# Altium footprint library PEI_PCB_1.1.PcbLib: 310 footprints (part 12 of 20)
Each footprint in its own frame and in the unit in brackets; x right, y up, seen from the top. Pads: shape width x height; smd on the part's side, far side on the other; paste and mask are expansions set on the pad; w line width, h text height; cw(c..) or ccw(c..) is an arc to the next point about the centre after c.
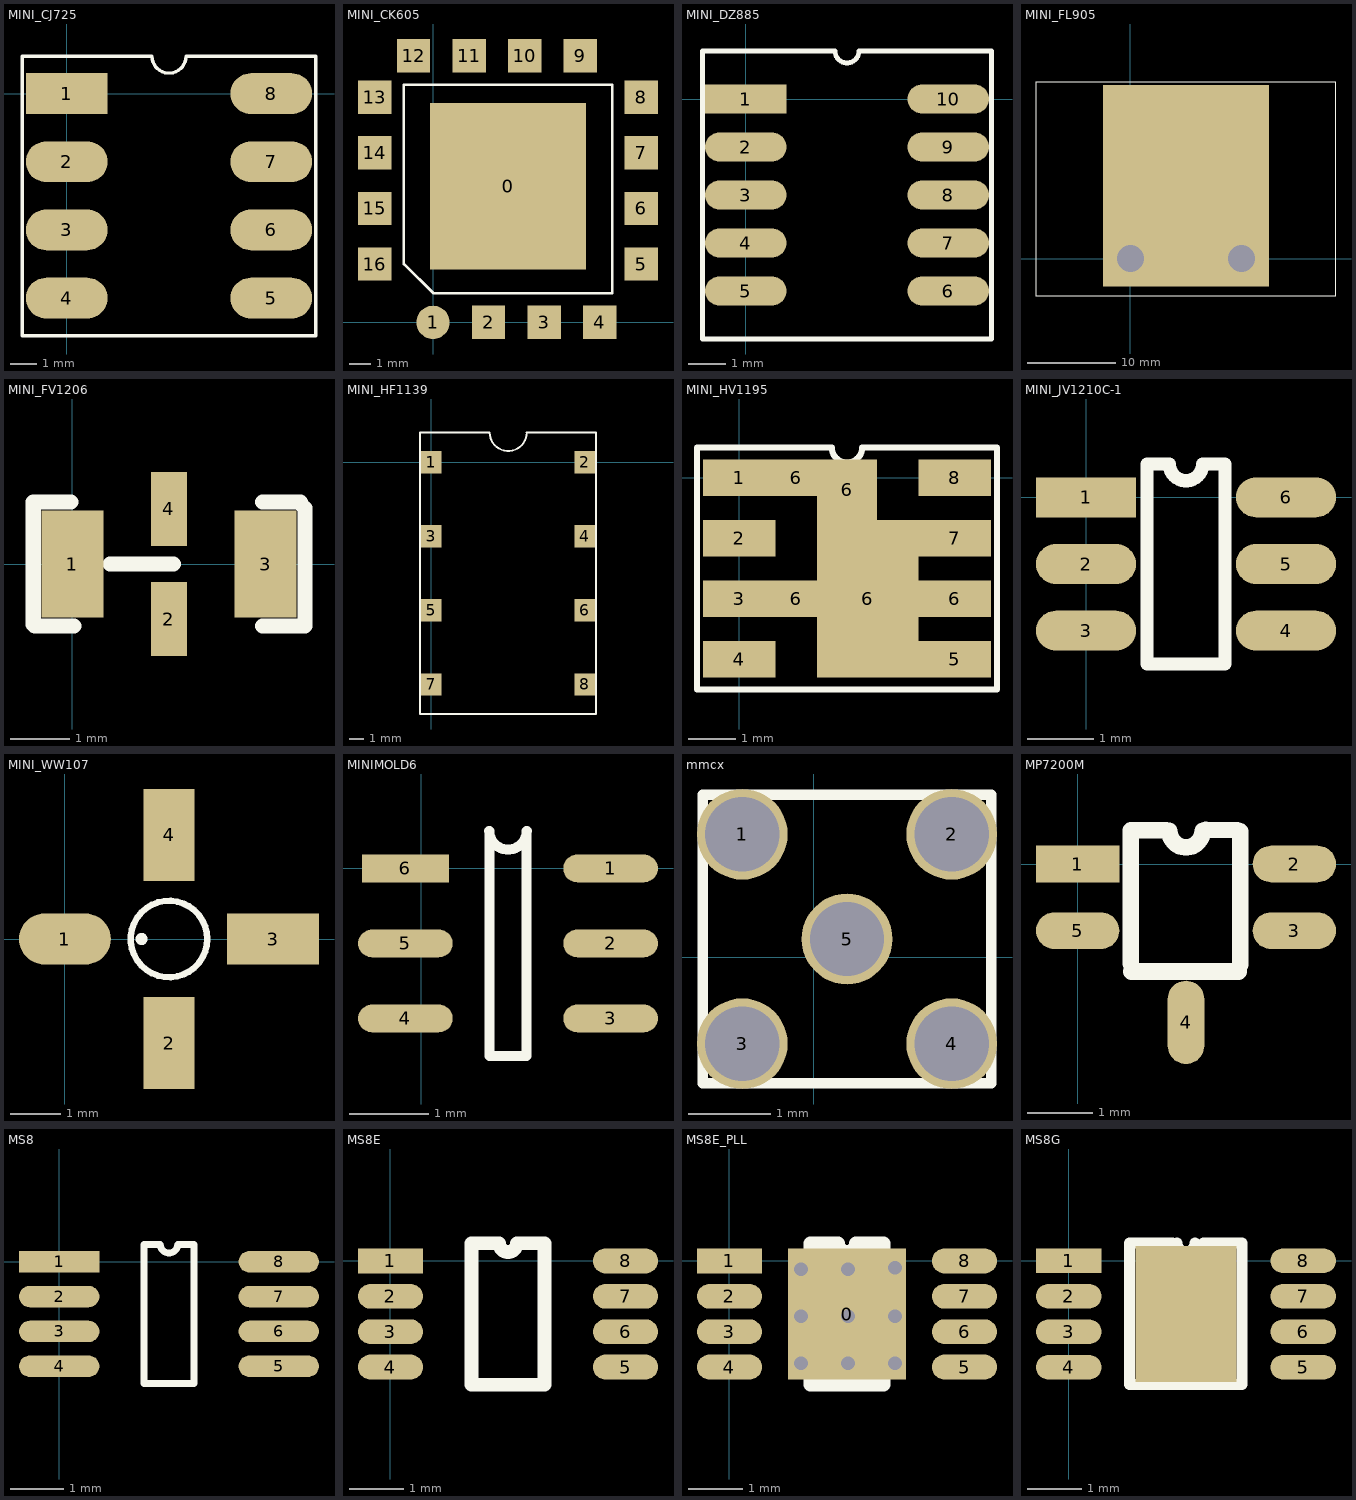
[diagram p11: the footprints below, top view; thin cyan lines are the x and y axes]

## MINI_CJ725 [mil]
pads (8):
  rect 120x60 smd: 1(0,0)
  oval 120x60 smd: 2(0,-100) 3(0,-200) 4(0,-300) 5(300,-300) 6(300,-200) 7(300,-100) 8(300,0)
TopOverlay:
  lines w5: -65,-355 -65,55 125,55 ccw(c150,55) 175,55 365,55 365,-355 -65,-355

## MINI_CK605 [mil]
pads (17):
  rect 280x300 smd: 0(135,245)
  round 60 smd: 1(0,0)
  rect 60x60 smd: 2(100,0) 3(200,0) 4(300,0) 5(375,105) 6(375,205) 7(375,305) 8(375,405) 9(265,480) 10(165,480) 11(65,480) 12(-35,480) 13(-105,405) 14(-105,305) 15(-105,205) 16(-105,105)
TopOverlay:
  lines w5: -52.5,105 -52.5,427.5 322.5,427.5 322.5,52.5 0.5,52.5 -52.5,105

## MINI_DZ885 [mil]
pads (10):
  rect 85x30 smd: 1(0,0)
  oval 85x30 smd: 2(0,-50) 3(0,-100) 4(0,-150) 5(0,-200) 6(211,-200) 7(211,-150) 8(211,-100) 9(211,-50) 10(211,0)
TopOverlay:
  lines w5: -45,-250 -45,50 93,50 ccw(c105.5,50) 118,50 256,50 256,-250 -45,-250

## MINI_FL905 [mil]
pads (1):
  rect 740x900 smd: ""(248,326)
via 0,0 diameter 140 hole 120
via 496,0 diameter 140 hole 120
TopOverlay:
  lines w5: -422,-169 -422,790 918,790 918,-163 ; -422,-166 918,-166

## MINI_FV1206 [mm]
pads (4):
  rect 1.04x1.8 smd: 1(0,0) 3(3.25,0)
  rect 0.61x1.245 smd: 2(1.625,-0.928) 4(1.625,0.928)
TopOverlay:
  lines w0.254: -0.025,1.041 -0.66,1.041 -0.66,-1.016 -0.635,-1.041 0.025,-1.041 ; 0.635,0 1.702,0 ; 3.2,-1.041 3.912,-1.041 3.912,0.94 3.835,1.016 ; 3.2,1.041 3.835,1.041

## MINI_HF1139 [mil]
pads (8):
  rect 55x60 smd: 1(0,0) 2(415,0) 3(0,-200) 4(415,-200) 5(0,-400) 6(415,-400) 7(0,-600) 8(415,-600)
TopOverlay:
  lines w5: 157.5,80 -30,80 -30,-680 445,-680 445,80 257.5,80 ; 158,80 ccw(c208,80) 258,80

## MINI_HV1195 [mil]
pads (12):
  rect 60x30 smd: 1(0,0) 2(0,-50) 3(0,-100) 4(0,-150) 5(178,-150) 6(178,-100) 7(178,-50) 8(178,0)
  rect 34x30 smd: 6(47,-100) 6(47,0)
  rect 50x50 smd: 6(89,-10)
  rect 84x130 smd: 6(106,-100)
TopOverlay:
  lines w5: -35,-175 213,-175 213,25 101.5,25 cw(c89,25) 76.5,25 -35,25 -35,-175

## MINI_JV1210C-1 [mm]
pads (6):
  rect 1.5x0.6 smd: 1(0,0)
  oval 1.5x0.6 smd: 2(0,-1) 3(0,-2) 4(3,-2) 5(3,-1) 6(3,0)
TopOverlay:
  lines w0.2: 2.05,0.5 1.75,0.5 cw(c1.5,0.5) 1.25,0.5 0.915,0.5 0.915,-2.5 2.085,-2.5 2.085,0.5

## MINI_WW107 [mil]
pads (4):
  oval 72x40 smd: 1(0,0)
  rect 40x72 smd: 2(81.5,-81.5) 4(81.5,81.5)
  rect 72x40 smd: 3(163,0)
TopOverlay:
  circle w5: c60,0 r2.24
  circle w5: c81.5,0 r30

## MINIMOLD6 [mm]
pads (6):
  oval 1.2x0.35 smd: 1(2.4,0) 2(2.4,-0.95) 3(2.4,-1.9) 4(-0.2,-1.9) 5(-0.2,-0.95)
  rect 1.1x0.35 smd: 6(-0.2,0)
TopOverlay:
  lines w0.127: 0.863,0.475 ccw(c1.1,0.475) 1.337,0.475 ; 0.865,0.475 0.865,-2.375 1.335,-2.375 1.335,0.475

## mmcx [mm]
pads (5):
  round 1.1 hole 0.9: 1(-0.864,1.494) 2(1.676,1.494) 3(-0.864,-1.046) 4(1.676,-1.046) 5(0.406,0.224)
TopOverlay:
  lines w0.127: -1.344,-1.527 2.156,-1.527 2.156,1.974 -1.344,1.974 -1.344,-1.527

## MP7200M [mil]
pads (5):
  rect 50x22 smd: 1(0,0)
  oval 50x22 smd: 2(130,0) 3(130,-40) 5(0,-40)
  oval 22x50 smd: 4(65,-95)
TopOverlay:
  lines w10: 31.8,-59.9 31.8,20.1 ; 32.2,-64.5 96.6,-64.5 ; 32.3,20.3 53,20.1 ; 55,20 ccw(c65,20) 75,20 ; 76.9,20.5 95.8,20.3 ; 97.5,-60.5 97.5,19.5

## MS8 [mm]
pads (8):
  rect 1.5x0.4 smd: 1(0,0)
  oval 1.5x0.4 smd: 2(0,-0.65) 3(0,-1.3) 4(0,-1.95) 5(4.1,-1.95) 6(4.1,-1.3) 7(4.1,-0.65) 8(4.1,0)
TopOverlay:
  lines w0.127: 1.585,-2.275 2.515,-2.275 2.515,0.325 2.212,0.325 cw(c2.05,0.325) 1.888,0.325 1.585,0.325 1.585,-2.275

## MS8E [mil]
pads (8):
  rect 47x18 smd: 1(0,0)
  oval 47x18 smd: 2(0,-25.6) 3(0,-51.2) 4(0,-76.8) 5(170,-76.8) 6(170,-51.2) 7(170,-25.6) 8(170,0)
TopOverlay:
  lines w10: 58.5,-89.6 58.5,12.8 78.6,12.8 ccw(c85,12.8) 91.4,12.8 111.5,12.8 111.5,-89.6 58.5,-89.6

## MS8E_PLL [mil]
pads (9):
  rect 85x95 smd: 0(85,-38.4)
  rect 47x18 smd: 1(0,0)
  oval 47x18 smd: 2(0,-25.6) 3(0,-51.2) 4(0,-76.8) 5(170,-76.8) 6(170,-51.2) 7(170,-25.6) 8(170,0)
via 51.8,-6 diameter 12 hole 10
via 85.8,-6 diameter 12 hole 10
via 51.8,-40 diameter 12 hole 10
via 85.8,-40 diameter 12 hole 10
via 51.8,-74 diameter 12 hole 10
via 85.8,-74 diameter 12 hole 10
via 119.8,-5 diameter 12 hole 10
via 119.8,-40 diameter 12 hole 10
via 119.8,-74 diameter 12 hole 10
TopOverlay:
  lines w10: 58.5,-89.6 58.5,12.8 78.6,12.8 ccw(c85,12.8) 91.4,12.8 111.5,12.8 111.5,-89.6 58.5,-89.6

## MS8G [mm]
pads (9):
  rect 1.2x0.45 smd: 1(0,0)
  oval 1.2x0.45 smd: 2(0,-0.65) 3(0,-1.3) 4(0,-1.95) 5(4.3,-1.95) 6(4.3,-1.3) 7(4.3,-0.65) 8(4.3,0)
  rect 1.85x2.49 smd: ""(2.15,-0.975)
TopOverlay:
  lines w0.2: 1.118,0.33 1.118,-2.27 3.175,-2.27 3.175,0.33 2.47,0.33 ; 1.149,0.33 1.902,0.33 ; 1.987,0.325 ccw(c2.15,0.325) 2.313,0.325